# Altium schematic symbol library 750314178.SchLib: 1 symbol
Pins are listed as number, name and electrical type; pins without a type are passive.

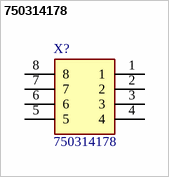
[diagram p0: symbol 750314178]

## 750314178
designator X?
100mVAC, Ls tie(1+4, 6+7), 100kHz; Manufacturer_Name: Wurth Elektronik; Geometry.Height: 5.97mm; Mouser Part Number: *; Mouser Price/Stock: *; Manufacturer_Part_Number: 750314178; Datasheet Link: https://www.we-online.com/components/products/datasheet/750314178.pdf
footprint 750314178
pins: 1, 2, 3, 4, 5, 6, 7, 8